# EAGLE library part DC-DC:CCP-__-E(TDK1.5-25W) (library QuantumOptics)
CCp-inoutsc-E, TDK DC-DC isolated, 1.5-25W, uni- or bipolar "p": 1.5, 3, 6, 10, 15, or 25W. "in": Input 05, 12, 24 or 48V. "out": Output 3.3, 5, 12, ±12 (or 24), ±15 (or30V). "s": Polarity single or dual. "c": Case horiz DIP, horiz SMD or vertical SIP. http://www.tdk.co.jp/tefe02/ea335_cc_e.pdf
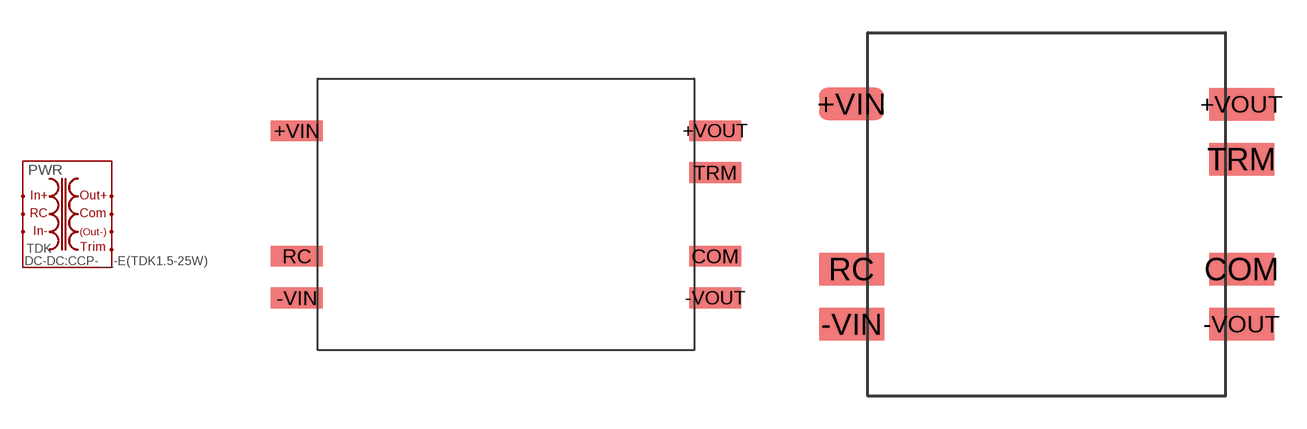
[diagram p85: symbol with the pads of DC-DC:CC3-XXXXX-R-E(TDK/LAMBDA); footprints DC-DC:CC3-XXXXX-R-E(TDK/LAMBDA), DC-DC:CC1R5-XXXXX-R-E(TDK/LAMBDA)]

Designator prefix PWR

## DC-DC:CCP-__-E(TDK1.5-25W)-CC3-R-E  [DC-DC:CC3-XXXXX-R-E(TDK/LAMBDA)]
+VIN  +IN  in
+VOUT  +OUT
-VIN  -IN  in
-VOUT  -OUT
COM  COM
RC  RC  in
TRM  TRIM

## DC-DC:CCP-__-E(TDK1.5-25W)-CC1R5-R-E  [DC-DC:CC1R5-XXXXX-R-E(TDK/LAMBDA)]
Pads as for DC-DC:CC3-XXXXX-R-E(TDK/LAMBDA)

## DC-DC:CCP-__-E(TDK1.5-25W)-CC10-R-E  [DC-DC:CC10-XXXXX-R-E(TDK/LAMBDA)]
Pads as for DC-DC:CC3-XXXXX-R-E(TDK/LAMBDA)

## DC-DC:CCP-__-E(TDK1.5-25W)-CC6-R-E  [DC-DC:CC6-XXXXX-R-E(TDK/LAMBDA)]
Pads as for DC-DC:CC3-XXXXX-R-E(TDK/LAMBDA)

## Footprint DC-DC:CC3-XXXXX-R-E(TDK/LAMBDA) (pad centres in mm)
CC3-inoutsR-E, TDK DC-DC isolated, 3W, uni- or bipolar "in": Input 05, 12, 24 or 48V. "out": Output 3.3, 5, 12, ±12 (or 24), ±15 (or30V). "s": Polarity single or dual. Case horiz SMD. http://www.tdk.co.jp/tefe02/ea335_cc_e.pdf
smd 3.175 x 1.27: +VIN -12.7,5.08; +VOUT 12.7,5.08; -VIN -12.7,-5.08; -VOUT 12.7,-5.08; COM 12.7,-2.54; RC -12.7,-2.54; TRM 12.7,2.54

## Footprint DC-DC:CC1R5-XXXXX-R-E(TDK/LAMBDA) (pad centres in mm)
CC1R5-inoutsR-E, TDK DC-DC isolated, 1.5W, uni- or bipolar "in": Input 05, 12, 24 or 48V. "out": Output 3.3, 5, 12, ±12 (or 24), ±15 (or30V). "s": Polarity single or dual. Case horiz SMD. http://www.tdk.co.jp/tefe02/ea335_cc_e.pdf
smd 3 x 1.5: +VIN -9,5.1; +VOUT 9,5.08; -VIN -9,-5.08; -VOUT 9,-5.08; COM 9,-2.54; RC -9,-2.54; TRM 9,2.54

## Footprint DC-DC:CC10-XXXXX-R-E(TDK/LAMBDA) (pad centres in mm)
CC10-inoutsR-E, TDK DC-DC isolated, 10W, uni- or bipolar "in": Input 05, 12, 24 or 48V. "out": Output 3.3, 5, 12, ±12 (or 24), ±15 (or30V). "s": Polarity single or dual. http://us.tdk-lambda.com/lp/ftp/specs/CC10-xR-E_spc_en.pdf
smd 3.175 x 1.27: +VIN -17.78,7.62; +VOUT 19.05,7.62; -VIN -17.78,-7.62; -VOUT 19.05,-7.62; COM 19.05,-2.54; RC -17.78,-2.54; TRM 19.05,2.54

## Footprint DC-DC:CC6-XXXXX-R-E(TDK/LAMBDA) (pad centres in mm)
CC6-inoutsR-E, TDK DC-DC isolated, 6W, uni- or bipolar "in": Input 05, 12, 24 or 48V. "out": Output 3.3, 5, 12, ±12 (or 24), ±15 (or30V). "s": Polarity single or dual. http://us.tdk-lambda.com/lp/ftp/specs/CC10-xR-E_spc_en.pdf
smd 3.175 x 1.27: +VIN -12.18,7.62; +VOUT 12.18,7.62; -VIN -12.18,-7.62; -VOUT 12.18,-7.62; COM 12.18,-2.54; RC -12.18,-2.54; TRM 12.18,2.54